# Altium footprint library IMX6ULL_MINI_V2.2.PcbLib: 44 footprints (part 3 of 3)
Each footprint in its own frame and in the unit in brackets; x right, y up, seen from the top. Pads: shape width x height; smd on the part's side, far side on the other; paste and mask are expansions set on the pad; w line width, h text height; cw(c..) or ccw(c..) is an arc to the next point about the centre after c.
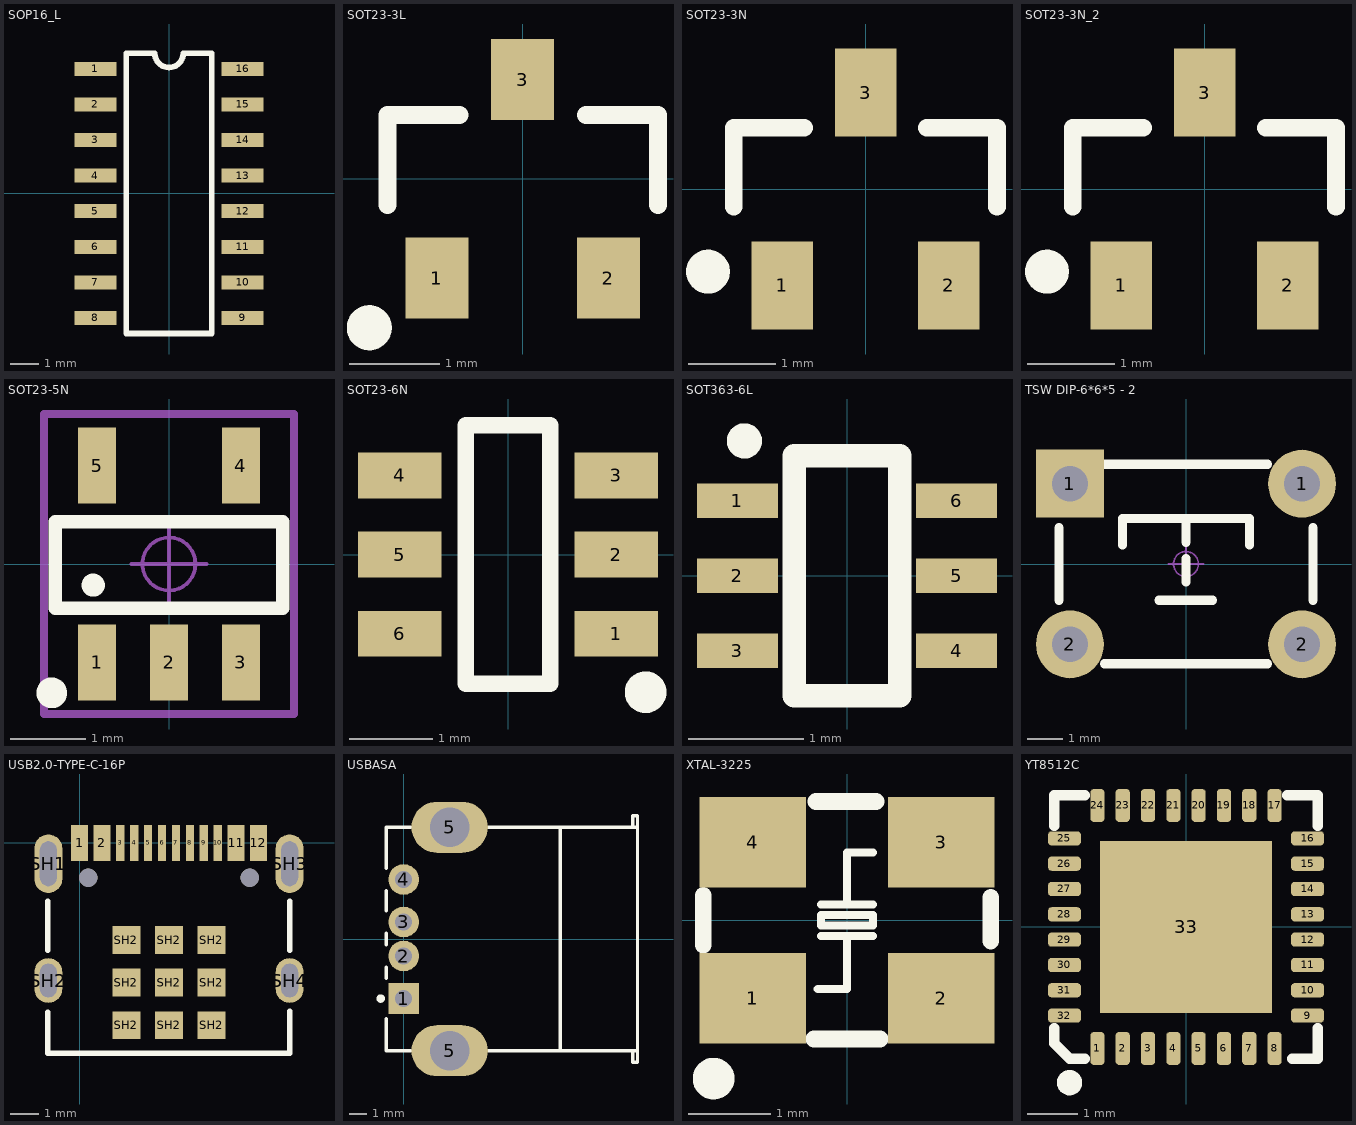
[diagram p2: the footprints below, top view; thin cyan lines are the x and y axes]

## SOP16_L [mm]
pads (16):
  rect 1.5x0.5 smd: 1(-2.625,4.445) 2(-2.625,3.175) 3(-2.625,1.905) 4(-2.625,0.635) 5(-2.625,-0.635) 6(-2.625,-1.905) 7(-2.625,-3.175) 8(-2.625,-4.445) 9(2.625,-4.445) 10(2.625,-3.175) 11(2.625,-1.905) 12(2.625,-0.635) 13(2.625,0.635) 14(2.625,1.905) 15(2.625,3.175) 16(2.625,4.445)
Top Overlay:
  lines w0.2: -1.524,5 -1.524,-5 1.524,-5 1.524,5
  lines w0.203: -1.524,5 -0.508,5 ccw(c0,5) 0,4.492 ; 1.524,5 0.508,5 cw(c0,5) 0,4.492 ; 0,4.492 0,4.492

## SOT23-3L [mm]
pads (3):
  rect 0.7x0.9 smd: 1(-0.95,-1.1) 2(0.95,-1.1) 3(0,1.1)
Top Overlay:
  circle w0.25: c-1.7,-1.651 r0.125
  lines w0.2: -1.5,-0.291 -1.5,0.709 -0.7,0.709 ; 0.7,0.709 1.5,0.709 1.5,-0.291

## SOT23-3N [mm]
pads (3):
  rect 0.7x1 smd: 1(-0.95,-1.1) 2(0.95,-1.1) 3(0,1.1)
Top Overlay:
  circle w0.25: c-1.797,-0.942 r0.125
  lines w0.2: -1.501,-0.2 -1.501,0.7 -0.701,0.7 ; 0.699,0.7 1.499,0.7 1.499,-0.2

## SOT23-3N_2 [mm]
pads (3):
  rect 0.7x1 smd: 1(-0.95,-1.1) 2(0.95,-1.1) 3(0,1.1)
Top Overlay:
  circle w0.25: c-1.797,-0.942 r0.125
  lines w0.2: -1.501,-0.2 -1.501,0.7 -0.701,0.7 ; 0.699,0.7 1.499,0.7 1.499,-0.2

## SOT23-5N [mm]
pads (5):
  rect 0.5x1 smd: 1(-0.95,-1.3) 2(0,-1.3) 3(0.95,-1.3) 4(0.95,1.3) 5(-0.95,1.3)
Top Overlay:
  circle w0.254: c-1.549,-1.702 r0.076
  circle w0.254: c-1.001,-0.279 r0.025
  lines w0.178: -1.5,-0.584 -1.5,0.559 1.5,0.559 1.5,-0.584 -1.5,-0.584
Mechanical 15:
  circle w0.05: c0,0 r0.35
  lines w0.05: -0.5,0 0.5,0 ; 0,-0.5 0,0.5
  lines w0.1: -1.651,-1.981 1.651,-1.981 1.651,1.981 -1.651,1.981 -1.651,-1.981

## SOT23-6N [mm]
pads (6):
  rect 1x0.55 smd: 1(1.3,-0.95) 2(1.3,0) 3(1.3,0.95) 4(-1.3,0.95) 5(-1.3,0) 6(-1.3,-0.95)
Top Overlay:
  circle w0.25: c1.651,-1.651 r0.125
  lines w0.2: -0.508,-1.55 0.508,-1.55 0.508,1.55 -0.508,1.55 -0.508,-1.55

## SOT363-6L [mm]
pads (6):
  rect 0.7x0.3 smd: 1(-0.95,0.65) 2(-0.95,0) 3(-0.95,-0.65) 4(0.95,-0.65) 5(0.95,0) 6(0.95,0.65)
Top Overlay:
  circle w0.152: c-0.889,1.168 r0.076
  lines w0.203: -0.457,-1.041 0.457,-1.041 0.457,1.041 -0.457,1.041 -0.457,-1.041

## TSW DIP-6*6*5 - 2 [mm]
pads (4):
  rect 1.9x1.9 hole 1: 1(-3.25,2.25)
  round 1.9 hole 1: 1(3.25,2.25) 2(-3.25,-2.25) 2(3.25,-2.25)
Top Overlay:
  lines w0.254: -3.556,-1.016 -3.556,1.016 ; -2.286,-2.794 2.286,-2.794 ; -2.286,2.794 2.286,2.794 ; -1.778,0.533 -1.778,1.27 1.778,1.27 1.778,0.533 ; -0.762,-1.016 0.737,-1.016 ; 0,-0.508 0,0.152 ; 0,0.61 0,1.27 ; 3.556,-1.016 3.556,1.016
Mechanical 15:
  circle w0.05: c0,0 r0.35
  lines w0.05: -0.5,0 0.5,0 ; 0,-0.5 0,0.5

## USB2.0-TYPE-C-16P [mm]
pads (27):
  rect 0.6x1.3 smd mask+0.064: 1(0,0) 2(0.8,0) 11(5.6,0) 12(6.4,0)
  rect 0.3x1.3 smd mask+0.064: 3(1.45,0) 4(1.95,0) 5(2.45,0) 6(2.95,0) 7(3.45,0) 8(3.95,0) 9(4.45,0) 10(4.95,0)
  oval 1x2.1 hole 0.6 slot 1.6 at 90 deg: SH1(-1.12,-0.745) SH3(7.52,-0.745)
  oval 1x1.6 hole 0.6 slot 1.2 at 90 deg: SH2(-1.12,-4.925) SH4(7.52,-4.925)
  rect 1x1 smd mask+0: SH2(1.676,-6.526) SH2(1.676,-5.002) SH2(1.676,-3.478) SH2(3.2,-6.526) SH2(3.2,-5.002) SH2(3.2,-3.478) SH2(4.724,-6.526)
  rect 1x1 smd paste+0 mask+0: SH2(4.724,-5.002) SH2(4.724,-3.478)
  round 0.65 hole 0.65 unplated mask+0: ""(0.31,-1.245) ""(6.09,-1.245)
Top Overlay:
  lines w0.2: -1.143,-6.055 -1.143,-7.528 7.52,-7.528 7.52,-6.025 ; -1.143,-3.848 -1.143,-2.093 ; 7.52,-3.845 7.52,-2.09

## USBASA [mm]
pads (6):
  rrect0% 1.8x1.8 hole 1: 1(0,-3.5)
  round 1.8 hole 1: 2(0,-1) 3(0,1) 4(0,3.5)
  oval 4.5x3 hole 2.3: 5(2.71,-6.57) 5(2.71,6.57)
Top Overlay:
  circle w0.25: c-1.35,-3.5 r0.125
  lines w0.2: -1.01,-4.7 -1.01,-6.565 0.41,-6.565 ; -1.01,-2.3 -1.01,-1.66 ; -1.01,-0.34 -1.01,0.34 ; -1.01,1.66 -1.01,2.84 ; -1.01,4.16 -1.01,6.565 0.41,6.565 ; 5.01,-6.565 13.752,-6.565 ; 5.01,6.565 13.752,6.565 ; 13.462,-6.565 13.462,-7.25 13.752,-7.25 13.752,7.25 13.462,7.25 13.462,6.565
  lines w0.203: 9.21,-6.565 9.21,6.565

## XTAL-3225 [mm]
pads (4):
  rect 1.3x1.1 smd: 1(-1.15,-0.95) 2(1.15,-0.95) 3(1.15,0.95) 4(-1.15,0.95)
Top Overlay:
  circle w0.254: c-1.626,-1.93 r0.127
  lines w0.1: -0.317,-0.19 0.318,-0.19 ; -0.317,0.191 0.318,0.191 ; 0,-0.838 0,-0.19 ; 0,0.191 0,0.826 0.318,0.826 ; -0.317,-0.063 0.318,-0.063 0.318,0.064 -0.317,0.064 -0.317,-0.063
  lines w0.102: -0.356,-0.838 0,-0.838
  lines w0.203: -1.753,-0.305 -1.753,0.305 ; -0.406,-1.448 0.406,-1.448 ; -0.381,1.448 0.356,1.448 ; 1.753,-0.254 1.753,0.279

## YT8512C [mm]
pads (33):
  rrect50% 0.28x0.65 smd mask+0.064: 1(-1.75,-2.4) 2(-1.25,-2.4) 3(-0.75,-2.4) 4(-0.25,-2.4) 5(0.25,-2.4) 6(0.75,-2.4) 7(1.25,-2.4) 8(1.75,-2.4) 17(1.75,2.4) 18(1.25,2.4) 19(0.75,2.4) 20(0.25,2.4) 21(-0.25,2.4) 22(-0.75,2.4) 23(-1.25,2.4) 24(-1.75,2.4)
  rrect50% 0.65x0.28 smd mask+0.064: 9(2.4,-1.75) 10(2.4,-1.25) 11(2.4,-0.75) 12(2.4,-0.25) 13(2.4,0.25) 14(2.4,0.75) 15(2.4,1.25) 16(2.4,1.75) 25(-2.4,1.75) 26(-2.4,1.25) 27(-2.4,0.75) 28(-2.4,0.25) 29(-2.4,-0.25) 30(-2.4,-0.75) 31(-2.4,-1.25) 32(-2.4,-1.75)
  rrect0% 3.4x3.4 smd mask+0.064: 33(0,0)
Top Overlay:
  circle w0.25: c-2.3,-3.075 r0.125
  lines w0.203: -2.6,-2 -2.6,-2.3 -2.3,-2.6 -2,-2.6 ; -2.6,2 -2.6,2.6 -2,2.6 ; 2,2.6 2.6,2.6 2.6,2 ; 2.1,-2.6 2.6,-2.6 2.6,-2